# Altium footprint library Custom Components.PcbLib: 49 footprints (part 3 of 4)
Each footprint in its own frame and in the unit in brackets; x right, y up, seen from the top. Pads: shape width x height; smd on the part's side, far side on the other; paste and mask are expansions set on the pad; w line width, h text height; cw(c..) or ccw(c..) is an arc to the next point about the centre after c.
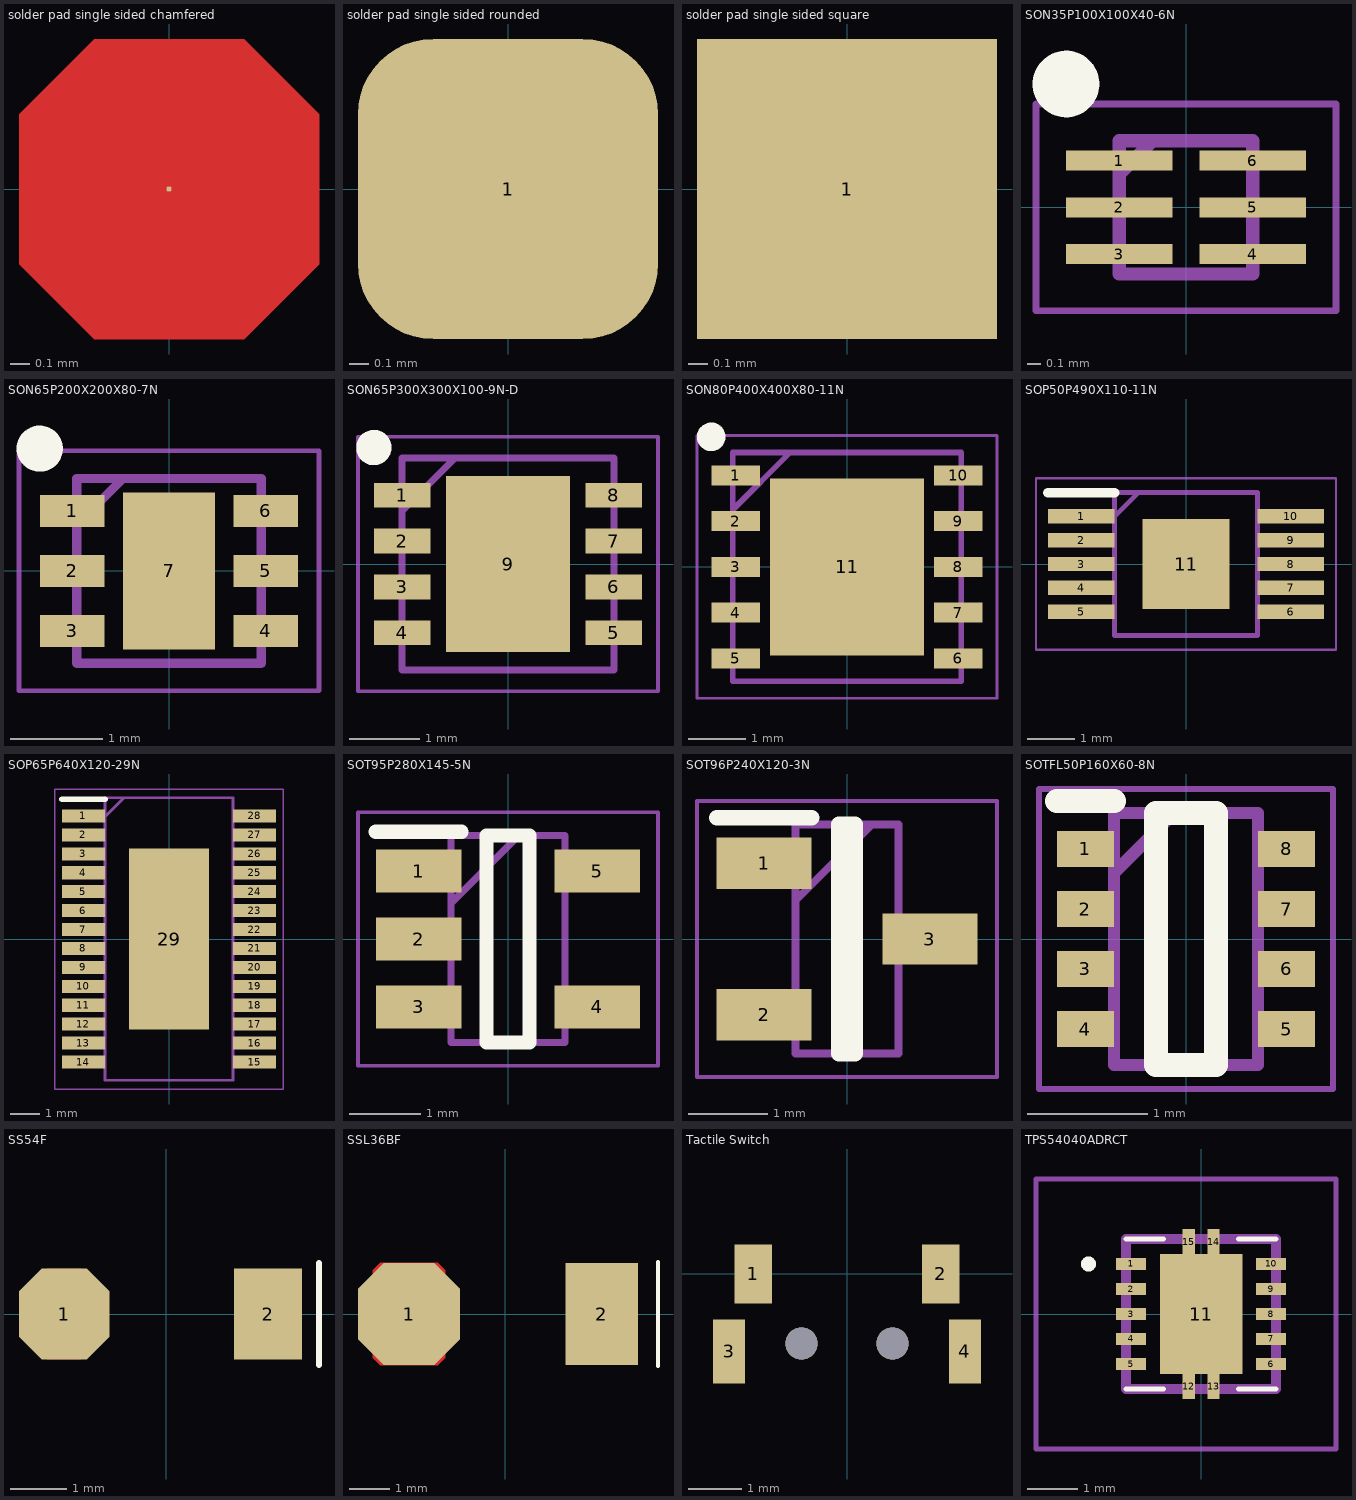
[diagram p2: the footprints below, top view; thin cyan lines are the x and y axes]

## solder pad single sided chamfered [mil]
pads (1):
  oct 1x1 smd: 1(0,0)
Top Layer:
  region: -15,-30 -30,-15 -30,15 -15,30 15,30 30,15 30,-15 15,-30

## solder pad single sided rounded [mil]
pads (1):
  rrect50% 60x60 smd: 1(0,0)

## solder pad single sided square [mil]
pads (1):
  rect 60x60 smd: 1(0,0)

## SON35P100X100X40-6N [mm]
pads (6):
  rect 0.8x0.15 smd: 1(-0.5,0.35) 2(-0.5,0) 3(-0.5,-0.35) 4(0.5,-0.35) 5(0.5,0) 6(0.5,0.35)
Top Overlay:
  circle w0.25: c-0.9,0.925 r0.125
Mechanical 13:
  lines w0.1: -0.5,0.25 -0.25,0.5 ; -0.5,-0.5 -0.5,0.5 0.5,0.5 0.5,-0.5 -0.5,-0.5
Mechanical 15:
  lines w0.05: -1.125,-0.775 -1.125,0.775 1.125,0.775 1.125,-0.775 -1.125,-0.775
3D body "SN74LVC1G14DSFR.stp": height 0.48, standoff 0, extent -0.5,-0.51 0.5,0.49

## SON65P200X200X80-7N [mm]
pads (7):
  rect 0.7x0.35 smd: 1(-1.05,0.65) 2(-1.05,0) 3(-1.05,-0.65) 4(1.05,-0.65) 5(1.05,0) 6(1.05,0.65)
  rect 1x1.7 smd: 7(0,0)
Top Overlay:
  circle w0.25: c-1.4,1.325 r0.125
Mechanical 13:
  lines w0.1: -1,0.5 -0.5,1 ; -1,-1 -1,1 1,1 1,-1 -1,-1
Mechanical 15:
  lines w0.05: -1.625,-1.3 -1.625,1.3 1.625,1.3 1.625,-1.3 -1.625,-1.3
3D body "TPS74633PQWDRVRQ1.stp": height 0.77, standoff 0, extent -1,-1 1,1

## SON65P300X300X100-9N-D [mm]
pads (9):
  rect 0.8x0.35 smd: 1(-1.5,0.975) 2(-1.5,0.325) 3(-1.5,-0.325) 4(-1.5,-0.975) 5(1.5,-0.975) 6(1.5,-0.325) 7(1.5,0.325) 8(1.5,0.975)
  rect 1.75x2.5 smd: 9(0,0)
Top Overlay:
  circle w0.25: c-1.9,1.65 r0.125
Mechanical 13:
  lines w0.1: -1.5,0.75 -0.75,1.5 ; -1.5,-1.5 -1.5,1.5 1.5,1.5 1.5,-1.5 -1.5,-1.5
Mechanical 15:
  lines w0.05: -2.125,-1.8 -2.125,1.8 2.125,1.8 2.125,-1.8 -2.125,-1.8
3D body "TPS78533QWDRBRQ1.stp": height 1, standoff 0, extent -1.5,-1.5 1.5,1.5

## SON80P400X400X80-11N [mm]
pads (11):
  rect 0.85x0.35 smd: 1(-1.95,1.6) 2(-1.95,0.8) 3(-1.95,0) 4(-1.95,-0.8) 5(-1.95,-1.6) 6(1.95,-1.6) 7(1.95,-0.8) 8(1.95,0) 9(1.95,0.8) 10(1.95,1.6)
  rect 2.7x3.1 smd: 11(0,0)
Top Overlay:
  circle w0.25: c-2.375,2.275 r0.125
Mechanical 13:
  lines w0.1: -2,1 -1,2 ; -2,-2 -2,2 2,2 2,-2 -2,-2
Mechanical 15:
  lines w0.05: -2.625,-2.3 -2.625,2.3 2.625,2.3 2.625,-2.3 -2.625,-2.3
3D body "TPS54561-Q1.stp": height 0.8, standoff 0, extent -2,-2 2,2

## SOP50P490X110-11N [mm]
pads (11):
  rect 1.4x0.3 smd: 1(-2.2,1) 2(-2.2,0.5) 3(-2.2,0) 4(-2.2,-0.5) 5(-2.2,-1) 6(2.2,-1) 7(2.2,-0.5) 8(2.2,0) 9(2.2,0.5) 10(2.2,1)
  rect 1.83x1.89 smd: 11(0,0)
Top Overlay:
  lines w0.2: -2.9,1.5 -1.5,1.5
Mechanical 13:
  lines w0.1: -1.5,1 -1,1.5 ; -1.5,-1.5 -1.5,1.5 1.5,1.5 1.5,-1.5 -1.5,-1.5
Mechanical 15:
  lines w0.05: -3.15,-1.8 -3.15,1.8 3.15,1.8 3.15,-1.8 -3.15,-1.8
3D body "TPS54260MDGQTEP.stp": height 0.96, standoff 0, extent -2.463,-1.5 2.463,1.5

## SOP65P640X120-29N [mm]
pads (29):
  rect 1.475x0.45 smd: 1(-2.938,4.225) 2(-2.938,3.575) 3(-2.938,2.925) 4(-2.938,2.275) 5(-2.938,1.625) 6(-2.938,0.975) 7(-2.938,0.325) 8(-2.938,-0.325) 9(-2.938,-0.975) 10(-2.938,-1.625) 11(-2.938,-2.275) 12(-2.938,-2.925) 13(-2.938,-3.575) 14(-2.938,-4.225) 15(2.938,-4.225) 16(2.938,-3.575) 17(2.938,-2.925) 18(2.938,-2.275) 19(2.938,-1.625) 20(2.938,-0.975) 21(2.938,-0.325) 22(2.938,0.325) 23(2.938,0.975) 24(2.938,1.625) 25(2.938,2.275) 26(2.938,2.925) 27(2.938,3.575) 28(2.938,4.225)
  rect 2.75x6.2 smd: 29(0,0)
Top Overlay:
  lines w0.2: -3.675,4.8 -2.2,4.8
Mechanical 13:
  lines w0.1: -2.2,4.2 -1.55,4.85 ; -2.2,-4.85 2.2,-4.85 2.2,4.85 -2.2,4.85 -2.2,-4.85
Mechanical 15:
  lines w0.05: -3.925,-5.15 3.925,-5.15 3.925,5.15 -3.925,5.15 -3.925,-5.15
3D body "AT7456E.stp": height 1.2, standoff 0, extent -3.2,-4.85 3.2,4.85

## SOT95P280X145-5N [mm]
pads (5):
  rect 1.2x0.6 smd: 1(-1.25,0.95) 2(-1.25,0) 3(-1.25,-0.95) 4(1.25,-0.95) 5(1.25,0.95)
Top Overlay:
  lines w0.2: -1.85,1.5 -0.65,1.5 ; -0.3,-1.45 0.3,-1.45 0.3,1.45 -0.3,1.45 -0.3,-1.45
Mechanical 13:
  lines w0.1: -0.8,0.5 0.15,1.45 ; -0.8,-1.45 0.8,-1.45 0.8,1.45 -0.8,1.45 -0.8,-1.45
Mechanical 15:
  lines w0.05: -2.1,-1.775 2.1,-1.775 2.1,1.775 -2.1,1.775 -2.1,-1.775
3D body "INA139NA_250.stp": height 1.2, standoff 0, extent -1.4,-1.45 1.4,1.45

## SOT96P240X120-3N [mm]
pads (3):
  rect 1.2x0.65 smd: 1(-1.05,0.96) 2(-1.05,-0.96) 3(1.05,0)
Top Overlay:
  lines w0.2: -1.65,1.535 -0.45,1.535 ; -0.1,-1.45 -0.1,1.45 0.1,1.45 0.1,-1.45 -0.1,-1.45
Mechanical 13:
  lines w0.1: -0.65,0.49 0.31,1.45 ; -0.65,-1.45 -0.65,1.45 0.65,1.45 0.65,-1.45 -0.65,-1.45
Mechanical 15:
  lines w0.05: -1.9,-1.75 -1.9,1.75 1.9,1.75 1.9,-1.75 -1.9,-1.75
3D body "AZ23C3V3-7-F.stp": height 1.2, standoff 0, extent -1.2,-1.45 1.2,1.45

## SOTFL50P160X60-8N [mm]
pads (8):
  rect 0.475x0.3 smd: 1(-0.838,0.75) 2(-0.838,0.25) 3(-0.838,-0.25) 4(-0.838,-0.75) 5(0.838,-0.75) 6(0.838,-0.25) 7(0.838,0.25) 8(0.838,0.75)
Top Overlay:
  lines w0.2: -1.075,1.15 -0.6,1.15 ; -0.25,-1.05 -0.25,1.05 0.25,1.05 0.25,-1.05 -0.25,-1.05
Mechanical 13:
  lines w0.1: -0.6,0.55 -0.1,1.05 ; -0.6,-1.05 -0.6,1.05 0.6,1.05 0.6,-1.05 -0.6,-1.05
Mechanical 15:
  lines w0.05: -1.225,-1.25 -1.225,1.25 1.225,1.25 1.225,-1.25 -1.225,-1.25
3D body "TPS2116DRLR.stp": height 0.6, standoff 0, extent -0.8,-1.05 0.8,1.05

## SS54F [mm]
pads (2):
  oct 1.6x1.6 smd: 1(-1.8,0)
  rect 1.2x1.6 smd: 2(1.8,0)
Top Layer:
  region: -2.4,-0.5 -2.1,-0.8 -1.5,-0.8 -1.2,-0.5 -1.2,0.5 -1.5,0.8 -2.1,0.8 -2.4,0.5
Top Overlay:
  lines w0.1: 2.7,-0.9 2.7,0.9
3D body: height 1.1, standoff 0, extent -1.85,-1.35 1.85,1.35

## SSL36BF [mm]
pads (2):
  oct 2.54x2.54 smd: 1(-2.4,0)
  rect 1.8x2.54 smd: 2(2.4,0)
Top Layer:
  region: -3.3,-1.09 -3.12,-1.27 -1.68,-1.27 -1.5,-1.09 -1.5,1.09 -1.68,1.27 -3.12,1.27 -3.3,1.09
Top Overlay:
  lines w0.1: 3.8,-1.3 3.8,1.3
3D body: height 1.3, standoff 0, extent -2.2,-1.85 2.2,1.85

## Tactile Switch [mm]
pads (6):
  rect 0.7x1.1 smd: 1(-1.75,0) 2(1.75,0)
  rect 0.6x1.2 smd: 3(-2.2,-1.45) 4(2.2,-1.45)
  round 0.6 hole 0.6 unplated: ""(-0.85,-1.3) ""(0.85,-1.3)

## TPS54040ADRCT [mm]
pads (15):
  rect 0.6x0.24 smd: 1(-1.4,1) 2(-1.4,0.5) 3(-1.4,0) 4(-1.4,-0.5) 5(-1.4,-1) 6(1.4,-1) 7(1.4,-0.5) 8(1.4,0) 9(1.4,0.5) 10(1.4,1)
  rect 1.65x2.4 smd: 11(0,0)
  rect 0.25x0.5 smd: 12(-0.25,-1.45) 13(0.25,-1.45) 14(0.25,1.45) 15(-0.25,1.45)
Top Overlay:
  lines w0.1: -1.5,-1.5 -0.75,-1.5 -1.5,-1.5 ; -1.5,1.5 -0.75,1.5 -1.5,1.5 ; 0.75,-1.5 1.5,-1.5 0.75,-1.5 ; 0.75,1.5 1.5,1.5 0.75,1.5
  lines w0.2: -2.3,1 ccw(c-2.25,1) -2.2,1 ; -2.3,1 cw(c-2.25,1) -2.2,1 ; -2.3,1 ccw(c-2.25,1) -2.2,1
Mechanical 13:
  lines w0.2: -1.5,-1.5 -1.5,1.5 1.5,1.5 1.5,-1.5 -1.5,-1.5
Mechanical 15:
  lines w0.1: -3.3,-2.7 -3.3,2.7 2.7,2.7 2.7,-2.7 -3.3,-2.7
3D body "TPS54260DRCR.stp": height 1, standoff 0, extent -1.5,-1.5 1.5,1.5